# Altium integrated library ElectroMechanical.IntLib: 5 symbols
Pins are listed as number, name and electrical type; pins without a type are passive.

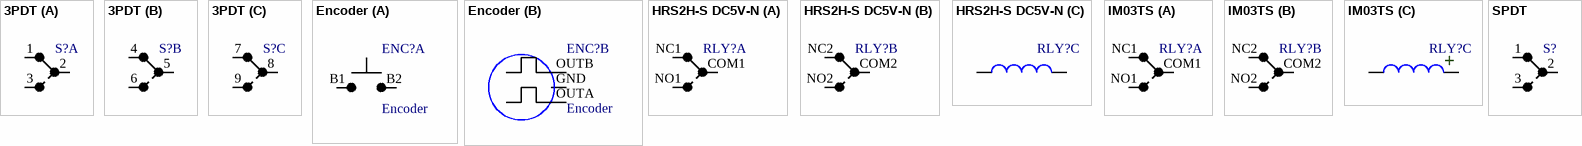
[diagram p0: symbols 3PDT to SPDT]

## 3PDT
designator S?  (value not drawn)
footprint 3PDT
part A pins: 1, 2, 3
part B pins: 4, 5, 6
part C pins: 7, 8, 9

## Encoder
designator ENC?
Encoder with switch
footprint EncoderSwitch (Encoder with switch)
part A pins: B1, B2
part B pins: GND, OUTA, OUTB

## HRS2H-S DC5V-N
designator RLY?, comment RELAY  (value not drawn)
DPDT Relay
footprint HRS2H-S DC5V-N
part A pins: COM1, NC1, NO1
part B pins: COM2, NC2 1, NO2
part C pins: COIL1 1, COIL2 2

## IM03TS
designator RLY?  (value not drawn)
DPDT Relay
footprint IM03TS
part A pins: COM1, NC1, NO1
part B pins: COM2, NC2 1, NO2
part C pins: COIL+ 2, COIL- 1
part C text: +

## SPDT
designator S?  (value not drawn)
footprint PINH-3
pins: 1, 2, 3